# EAGLE library part DISPLAY-NOKIA-3310 (library FJlib)
DEPRECATED MAUVAIS ECARTEMENT84x48 Dot Matrix LCD Module based on Nokia 3310 display
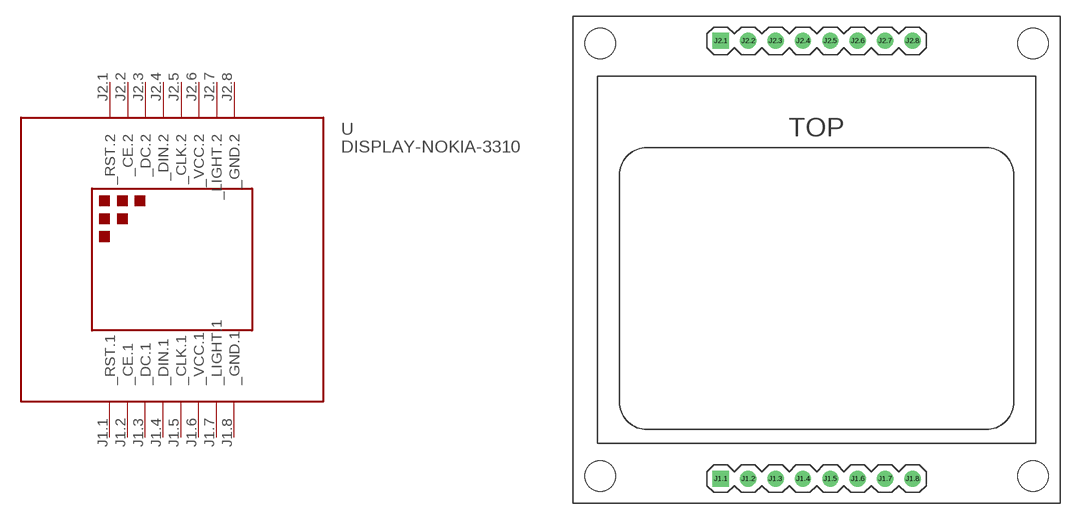
[diagram p0: symbol with the pads of DISPLAY-NOKIA-3310; footprint DISPLAY-NOKIA-3310]

Designator prefix -

## DISPLAY-NOKIA-3310  [DISPLAY-NOKIA-3310]
J1.1  _RST.1  pwr
J1.2  _CE.1  pwr
J1.3  _DC.1
J1.4  _DIN.1
J1.5  _CLK.1
J1.6  _VCC.1
J1.7  _LIGHT.1
J1.8  _GND.1  in
J2.1  _RST.2  pwr
J2.2  _CE.2  pwr
J2.3  _DC.2
J2.4  _DIN.2
J2.5  _CLK.2
J2.6  _VCC.2
J2.7  _LIGHT.2
J2.8  _GND.2  in

## Footprint DISPLAY-NOKIA-3310 (pad centres in mm)
DEPRECATED MAUVAIS ECARTEMENT84x48 Dot Matrix LCD Module based on Nokia 3310 display
drill 1 square: J1.1 -8.89,-20.32; J2.1 -8.89,20.32
drill 1: J1.2 -6.35,-20.32; J1.3 -3.81,-20.32; J1.4 -1.27,-20.32; J1.5 1.27,-20.32; J1.6 3.81,-20.32; J1.7 6.35,-20.32; J1.8 8.89,-20.32; J2.2 -6.35,20.32; J2.3 -3.81,20.32; J2.4 -1.27,20.32; J2.5 1.27,20.32; J2.6 3.81,20.32; J2.7 6.35,20.32; J2.8 8.89,20.32
hole 2.8 at -20.066,-20.066
hole 2.8 at 20.066,-20.066
hole 2.8 at 20.066,20.066
hole 2.8 at -20.066,20.066